# Altium integrated library Linear Technology Power Management Switching Regulator LT1074-LT8705.IntLib: 2252 symbols (part 24 of 148)
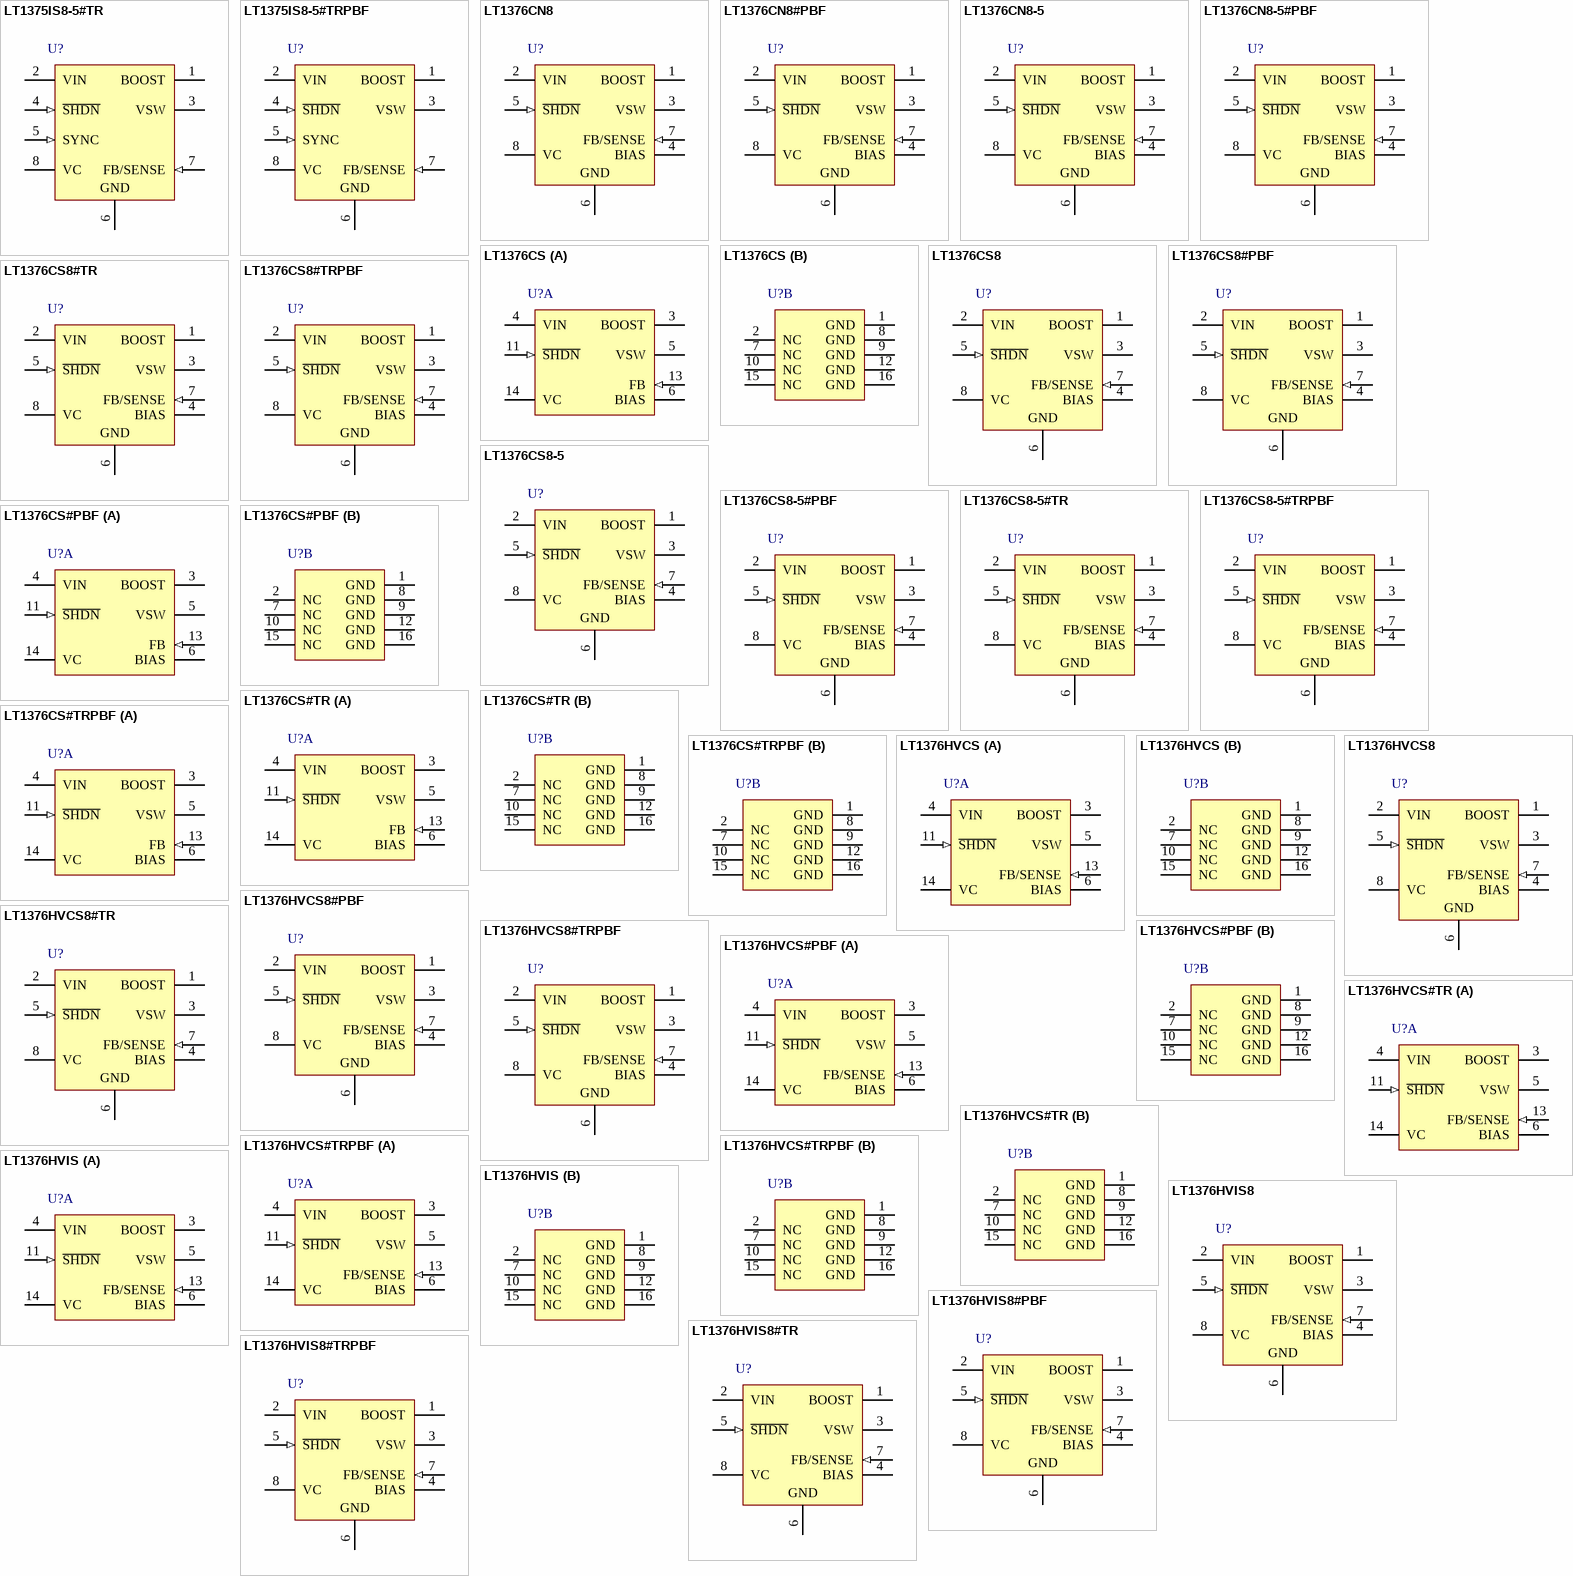
[diagram p94: symbols LT1375IS8-5#TR to LT1376HVIS8#TRPBF]

## LT1376CS8#TRPBF
designator U?
1.5 A, 500 kHz Step-Down Switching Regulator, 8-pin SOIC (S8-8), 0 to 125 degC, Pb-Free, Tape and Reel; Manufacturer: Linear Technology; PartNumber: LT1376CS8#TRPBF; Number of Outputs: 1; DatasheetVersion: Rev. D; PackageVersion: Rev. G, 03/2012; PackageReference: S8-8; PackageDescription: 8-Pin Plastic Small Outline (Narrow .150 Inch), Body 4.9 x 3.9 mm, Pitch 1.27 mm; Supplier 1: Digi-Key; Supplier Part Number 1: LT1376CS8#TRPBF-ND; Supplier 2: Newark; Supplier Part Number 2: 57M3789; Packing: Tape and Reel; RoHS: TRUE; Mounting Technology: Surface Mount; ComponentLink1Description: Manufacturer URL; ComponentLink1URL: http://www.linear.com/; ComponentLink2Description: Datasheet; ComponentLink2URL: http://cds.linear.com/docs/en/datasheet/13756fd.pdf; ComponentLink3Description: Package Specification; ComponentLink3URL: http://cds.linear.com/docs/en/packaging/05081610_G_SO8.pdf
footprint LT-S8-8_N (SOIC, 8-Leads, Body 5x4mm, Pitch 1.27mm, IPC Medium Density)
footprint LT-S8-8_L (SOIC, 8-Leads, Body 5x4mm, Pitch 1.27mm, IPC High Density)
footprint LT-S8-8_M (SOIC, 8-Leads, Body 5x4mm, Pitch 1.27mm, IPC Low Density)
pins: 1 BOOST "The BOOST pin is used to provide a drive voltage, higher than the input voltage, to the internal bipolar NPN power switch. Without this added voltage, the typical switch voltage loss would be about 1.5V. The additional boost (See Datasheet)", 2 VIN (power) "This is the collector of the on-chip power NPN switch. This pin powers the internal circuitry and internal regulator when the BIAS pin is not present. At NPN switch on and off, high dl/dt edges occur on this pin. Keep the (See Datasheet)", 3 VSW (power) "The switch pin is the emitter of the on-chip power NPN switch. It is driven up to the input pin voltage during switch on time. Inductor current drives the switch pin negative during switch off time. Negative voltage is (See Datasheet)", 4 BIAS (power) "The BIAS pin is used to improve efficiency when operating at higher input voltages and light load current. Connecting this pin to the regulated output voltage forces most of the internal circuitry to draw its operating (See Datasheet)", 5 ~{SHDN} (in) "The shutdown pin is used to turn off the regulator and to reduce input drain current to a few microamperes. Actually, this pin has two separate thresholds, one at 2.38V to disable switching, and a second at 0.4V to force (See Datasheet)", 6 GND (power) "The GND pin connection needs consideration for two reasons. First, it acts as the reference for the regulated output, so load regulation will suffer if the “ground?end of the load is not at the same voltage as the (See Datasheet)", 7 FB/SENSE (in) "The feedback pin is used to set output voltage, using an external voltage divider that generates 2.42V at the pin with the desired output voltage. The fixed voltage (-5) parts have the divider included on the chip, and the (See Datasheet)", 8 VC "The VC pin is the output of the error amplifier and the input of the peak switch current comparator. It is normally used for frequency compensation, but can do double duty as a current clamp or control loop override. This (See Datasheet)"

## LT1376CS8-5
designator U?
1.5 A, 500 kHz Step-Down Switching Regulator, 8-pin SOIC (S8-8), 0 to 125 degC; Manufacturer: Linear Technology; PartNumber: LT1376CS8-5; Number of Outputs: 1; DatasheetVersion: Rev. D; PackageVersion: Rev. G, 03/2012; PackageReference: S8-8; PackageDescription: 8-Pin Plastic Small Outline (Narrow .150 Inch), Body 4.9 x 3.9 mm, Pitch 1.27 mm; Supplier 1: Digi-Key; Supplier Part Number 1: LT1376CS8-5-ND; RoHS: FALSE; Mounting Technology: Surface Mount; ComponentLink1Description: Manufacturer URL; ComponentLink1URL: http://www.linear.com/; ComponentLink2Description: Datasheet; ComponentLink2URL: http://cds.linear.com/docs/en/datasheet/13756fd.pdf; ComponentLink3Description: Package Specification; ComponentLink3URL: http://cds.linear.com/docs/en/packaging/05081610_G_SO8.pdf
footprint LT-S8-8_N (SOIC, 8-Leads, Body 5x4mm, Pitch 1.27mm, IPC Medium Density)
footprint LT-S8-8_L (SOIC, 8-Leads, Body 5x4mm, Pitch 1.27mm, IPC High Density)
footprint LT-S8-8_M (SOIC, 8-Leads, Body 5x4mm, Pitch 1.27mm, IPC Low Density)
pins: 1 BOOST "The BOOST pin is used to provide a drive voltage, higher than the input voltage, to the internal bipolar NPN power switch. Without this added voltage, the typical switch voltage loss would be about 1.5V. The additional boost (See Datasheet)", 2 VIN (power) "This is the collector of the on-chip power NPN switch. This pin powers the internal circuitry and internal regulator when the BIAS pin is not present. At NPN switch on and off, high dl/dt edges occur on this pin. Keep the (See Datasheet)", 3 VSW (power) "The switch pin is the emitter of the on-chip power NPN switch. It is driven up to the input pin voltage during switch on time. Inductor current drives the switch pin negative during switch off time. Negative voltage is (See Datasheet)", 4 BIAS (power) "The BIAS pin is used to improve efficiency when operating at higher input voltages and light load current. Connecting this pin to the regulated output voltage forces most of the internal circuitry to draw its operating (See Datasheet)", 5 ~{SHDN} (in) "The shutdown pin is used to turn off the regulator and to reduce input drain current to a few microamperes. Actually, this pin has two separate thresholds, one at 2.38V to disable switching, and a second at 0.4V to force (See Datasheet)", 6 GND (power) "The GND pin connection needs consideration for two reasons. First, it acts as the reference for the regulated output, so load regulation will suffer if the “ground?end of the load is not at the same voltage as the (See Datasheet)", 7 FB/SENSE (in) "The feedback pin is used to set output voltage, using an external voltage divider that generates 2.42V at the pin with the desired output voltage. The fixed voltage (-5) parts have the divider included on the chip, and the (See Datasheet)", 8 VC "The VC pin is the output of the error amplifier and the input of the peak switch current comparator. It is normally used for frequency compensation, but can do double duty as a current clamp or control loop override. This (See Datasheet)"

## LT1376CS8-5#PBF
designator U?
1.5 A, 500 kHz Step-Down Switching Regulator, 8-pin SOIC (S8-8), 0 to 125 degC, Pb-Free; Manufacturer: Linear Technology; PartNumber: LT1376CS8-5#PBF; Number of Outputs: 1; DatasheetVersion: Rev. D; PackageVersion: Rev. G, 03/2012; PackageReference: S8-8; PackageDescription: 8-Pin Plastic Small Outline (Narrow .150 Inch), Body 4.9 x 3.9 mm, Pitch 1.27 mm; Supplier 1: Digi-Key; Supplier Part Number 1: LT1376CS8-5#PBF-ND; Supplier 2: Farnell; Supplier Part Number 2: 1273748; Supplier 3: Newark; Supplier Part Number 3: 57M3784; RoHS: TRUE; Mounting Technology: Surface Mount; ComponentLink1Description: Manufacturer URL; ComponentLink1URL: http://www.linear.com/; ComponentLink2Description: Datasheet; ComponentLink2URL: http://cds.linear.com/docs/en/datasheet/13756fd.pdf; ComponentLink3Description: Package Specification; ComponentLink3URL: http://cds.linear.com/docs/en/packaging/05081610_G_SO8.pdf
footprint LT-S8-8_N (SOIC, 8-Leads, Body 5x4mm, Pitch 1.27mm, IPC Medium Density)
footprint LT-S8-8_L (SOIC, 8-Leads, Body 5x4mm, Pitch 1.27mm, IPC High Density)
footprint LT-S8-8_M (SOIC, 8-Leads, Body 5x4mm, Pitch 1.27mm, IPC Low Density)
pins: 1 BOOST "The BOOST pin is used to provide a drive voltage, higher than the input voltage, to the internal bipolar NPN power switch. Without this added voltage, the typical switch voltage loss would be about 1.5V. The additional boost (See Datasheet)", 2 VIN (power) "This is the collector of the on-chip power NPN switch. This pin powers the internal circuitry and internal regulator when the BIAS pin is not present. At NPN switch on and off, high dl/dt edges occur on this pin. Keep the (See Datasheet)", 3 VSW (power) "The switch pin is the emitter of the on-chip power NPN switch. It is driven up to the input pin voltage during switch on time. Inductor current drives the switch pin negative during switch off time. Negative voltage is (See Datasheet)", 4 BIAS (power) "The BIAS pin is used to improve efficiency when operating at higher input voltages and light load current. Connecting this pin to the regulated output voltage forces most of the internal circuitry to draw its operating (See Datasheet)", 5 ~{SHDN} (in) "The shutdown pin is used to turn off the regulator and to reduce input drain current to a few microamperes. Actually, this pin has two separate thresholds, one at 2.38V to disable switching, and a second at 0.4V to force (See Datasheet)", 6 GND (power) "The GND pin connection needs consideration for two reasons. First, it acts as the reference for the regulated output, so load regulation will suffer if the “ground?end of the load is not at the same voltage as the (See Datasheet)", 7 FB/SENSE (in) "The feedback pin is used to set output voltage, using an external voltage divider that generates 2.42V at the pin with the desired output voltage. The fixed voltage (-5) parts have the divider included on the chip, and the (See Datasheet)", 8 VC "The VC pin is the output of the error amplifier and the input of the peak switch current comparator. It is normally used for frequency compensation, but can do double duty as a current clamp or control loop override. This (See Datasheet)"

## LT1376CS8-5#TR
designator U?
1.5 A, 500 kHz Step-Down Switching Regulator, 8-pin SOIC (S8-8), 0 to 125 degC, Tape and Reel; Manufacturer: Linear Technology; PartNumber: LT1376CS8-5#TR; Number of Outputs: 1; DatasheetVersion: Rev. D; PackageVersion: Rev. G, 03/2012; PackageReference: S8-8; PackageDescription: 8-Pin Plastic Small Outline (Narrow .150 Inch), Body 4.9 x 3.9 mm, Pitch 1.27 mm; Supplier 1: Digi-Key; Supplier Part Number 1: LT1376CS8-5#TR-ND; Packing: Tape and Reel; RoHS: FALSE; Mounting Technology: Surface Mount; ComponentLink1Description: Manufacturer URL; ComponentLink1URL: http://www.linear.com/; ComponentLink2Description: Datasheet; ComponentLink2URL: http://cds.linear.com/docs/en/datasheet/13756fd.pdf; ComponentLink3Description: Package Specification; ComponentLink3URL: http://cds.linear.com/docs/en/packaging/05081610_G_SO8.pdf
footprint LT-S8-8_N (SOIC, 8-Leads, Body 5x4mm, Pitch 1.27mm, IPC Medium Density)
footprint LT-S8-8_L (SOIC, 8-Leads, Body 5x4mm, Pitch 1.27mm, IPC High Density)
footprint LT-S8-8_M (SOIC, 8-Leads, Body 5x4mm, Pitch 1.27mm, IPC Low Density)
pins: 1 BOOST "The BOOST pin is used to provide a drive voltage, higher than the input voltage, to the internal bipolar NPN power switch. Without this added voltage, the typical switch voltage loss would be about 1.5V. The additional boost (See Datasheet)", 2 VIN (power) "This is the collector of the on-chip power NPN switch. This pin powers the internal circuitry and internal regulator when the BIAS pin is not present. At NPN switch on and off, high dl/dt edges occur on this pin. Keep the (See Datasheet)", 3 VSW (power) "The switch pin is the emitter of the on-chip power NPN switch. It is driven up to the input pin voltage during switch on time. Inductor current drives the switch pin negative during switch off time. Negative voltage is (See Datasheet)", 4 BIAS (power) "The BIAS pin is used to improve efficiency when operating at higher input voltages and light load current. Connecting this pin to the regulated output voltage forces most of the internal circuitry to draw its operating (See Datasheet)", 5 ~{SHDN} (in) "The shutdown pin is used to turn off the regulator and to reduce input drain current to a few microamperes. Actually, this pin has two separate thresholds, one at 2.38V to disable switching, and a second at 0.4V to force (See Datasheet)", 6 GND (power) "The GND pin connection needs consideration for two reasons. First, it acts as the reference for the regulated output, so load regulation will suffer if the “ground?end of the load is not at the same voltage as the (See Datasheet)", 7 FB/SENSE (in) "The feedback pin is used to set output voltage, using an external voltage divider that generates 2.42V at the pin with the desired output voltage. The fixed voltage (-5) parts have the divider included on the chip, and the (See Datasheet)", 8 VC "The VC pin is the output of the error amplifier and the input of the peak switch current comparator. It is normally used for frequency compensation, but can do double duty as a current clamp or control loop override. This (See Datasheet)"

## LT1376CS8-5#TRPBF
designator U?
1.5 A, 500 kHz Step-Down Switching Regulator, 8-pin SOIC (S8-8), 0 to 125 degC, Pb-Free, Tape and Reel; Manufacturer: Linear Technology; PartNumber: LT1376CS8-5#TRPBF; Number of Outputs: 1; DatasheetVersion: Rev. D; PackageVersion: Rev. G, 03/2012; PackageReference: S8-8; PackageDescription: 8-Pin Plastic Small Outline (Narrow .150 Inch), Body 4.9 x 3.9 mm, Pitch 1.27 mm; Supplier 1: Digi-Key; Supplier Part Number 1: LT1376CS8-5#TRPBF-ND; Supplier 2: Newark; Supplier Part Number 2: 57M3786; Packing: Tape and Reel; RoHS: TRUE; Mounting Technology: Surface Mount; ComponentLink1Description: Manufacturer URL; ComponentLink1URL: http://www.linear.com/; ComponentLink2Description: Datasheet; ComponentLink2URL: http://cds.linear.com/docs/en/datasheet/13756fd.pdf; ComponentLink3Description: Package Specification; ComponentLink3URL: http://cds.linear.com/docs/en/packaging/05081610_G_SO8.pdf
footprint LT-S8-8_N (SOIC, 8-Leads, Body 5x4mm, Pitch 1.27mm, IPC Medium Density)
footprint LT-S8-8_L (SOIC, 8-Leads, Body 5x4mm, Pitch 1.27mm, IPC High Density)
footprint LT-S8-8_M (SOIC, 8-Leads, Body 5x4mm, Pitch 1.27mm, IPC Low Density)
pins: 1 BOOST "The BOOST pin is used to provide a drive voltage, higher than the input voltage, to the internal bipolar NPN power switch. Without this added voltage, the typical switch voltage loss would be about 1.5V. The additional boost (See Datasheet)", 2 VIN (power) "This is the collector of the on-chip power NPN switch. This pin powers the internal circuitry and internal regulator when the BIAS pin is not present. At NPN switch on and off, high dl/dt edges occur on this pin. Keep the (See Datasheet)", 3 VSW (power) "The switch pin is the emitter of the on-chip power NPN switch. It is driven up to the input pin voltage during switch on time. Inductor current drives the switch pin negative during switch off time. Negative voltage is (See Datasheet)", 4 BIAS (power) "The BIAS pin is used to improve efficiency when operating at higher input voltages and light load current. Connecting this pin to the regulated output voltage forces most of the internal circuitry to draw its operating (See Datasheet)", 5 ~{SHDN} (in) "The shutdown pin is used to turn off the regulator and to reduce input drain current to a few microamperes. Actually, this pin has two separate thresholds, one at 2.38V to disable switching, and a second at 0.4V to force (See Datasheet)", 6 GND (power) "The GND pin connection needs consideration for two reasons. First, it acts as the reference for the regulated output, so load regulation will suffer if the “ground?end of the load is not at the same voltage as the (See Datasheet)", 7 FB/SENSE (in) "The feedback pin is used to set output voltage, using an external voltage divider that generates 2.42V at the pin with the desired output voltage. The fixed voltage (-5) parts have the divider included on the chip, and the (See Datasheet)", 8 VC "The VC pin is the output of the error amplifier and the input of the peak switch current comparator. It is normally used for frequency compensation, but can do double duty as a current clamp or control loop override. This (See Datasheet)"

## LT1376CS#PBF
designator U?
1.5 A, 500 kHz Step-Down Switching Regulator, 16-pin SOP (S-16), 0 to 125 degC, Pb-Free; Manufacturer: Linear Technology; PartNumber: LT1376CS#PBF; Number of Outputs: 1; DatasheetVersion: Rev. D; PackageVersion: Rev. G, 05/2012; PackageReference: S-16; PackageDescription: 16-Pin Plastic Small Outline, Body 9.9 x 3.9 mm, Pitch 1.27 mm; Supplier 1: Digi-Key; Supplier Part Number 1: LT1376CS#PBF-ND; RoHS: TRUE; Mounting Technology: Surface Mount; ComponentLink1Description: Manufacturer URL; ComponentLink1URL: http://www.linear.com/; ComponentLink2Description: Datasheet; ComponentLink2URL: http://cds.linear.com/docs/en/datasheet/13756fd.pdf; ComponentLink3Description: Package Specification; ComponentLink3URL: http://cds.linear.com/docs/en/packaging/S16%2005-08-1610%20Rev%20G.pdf
footprint LT-S-16_N (SOP, 16-Leads, Body 10x4mm, Pitch 1.27mm, IPC Medium Density)
footprint LT-S-16_L (SOP, 16-Leads, Body 10x4mm, Pitch 1.27mm, IPC High Density)
footprint LT-S-16_M (SOP, 16-Leads, Body 10x4mm, Pitch 1.27mm, IPC Low Density)
part A pins: 3 BOOST "The BOOST pin is used to provide a drive voltage, higher than the input voltage, to the internal bipolar NPN power switch. Without this added voltage, the typical switch voltage loss would be about 1.5V. The additional boost (See Datasheet)", 4 VIN (power) "This is the collector of the on-chip power NPN switch. This pin powers the internal circuitry and internal regulator when the BIAS pin is not present. At NPN switch on and off, high dl/dt edges occur on this pin. Keep the (See Datasheet)", 5 VSW (power) "The switch pin is the emitter of the on-chip power NPN switch. It is driven up to the input pin voltage during switch on time. Inductor current drives the switch pin negative during switch off time. Negative voltage is (See Datasheet)", 6 BIAS (power) "The BIAS pin is used to improve efficiency when operating at higher input voltages and light load current. Connecting this pin to the regulated output voltage forces most of the internal circuitry to draw its operating (See Datasheet)", 11 ~{SHDN} (in) "The shutdown pin is used to turn off the regulator and to reduce input drain current to a few microamperes. Actually, this pin has two separate thresholds, one at 2.38V to disable switching, and a second at 0.4V to force (See Datasheet)", 13 FB (in) "The feedback pin is used to set output voltage, using an external voltage divider that generates 2.42V at the pin with the desired output voltage. The fixed voltage (-5) parts have the divider included on the chip, and the (See Datasheet)", 14 VC "The VC pin is the output of the error amplifier and the input of the peak switch current comparator. It is normally used for frequency compensation, but can do double duty as a current clamp or control loop override. This (See Datasheet)"
part B pins: 1 GND (power) "The GND pin connection needs consideration for two reasons. First, it acts as the reference for the regulated output, so load regulation will suffer if the “ground?end of the load is not at the same voltage as the (See Datasheet)", 2 NC, 7 NC, 8 GND (power) "The GND pin connection needs consideration for two reasons. First, it acts as the reference for the regulated output, so load regulation will suffer if the “ground?end of the load is not at the same voltage as the (See Datasheet)", 9 GND (power) "The GND pin connection needs consideration for two reasons. First, it acts as the reference for the regulated output, so load regulation will suffer if the “ground?end of the load is not at the same voltage as the (See Datasheet)", 10 NC, 12 GND (power) "The GND pin connection needs consideration for two reasons. First, it acts as the reference for the regulated output, so load regulation will suffer if the “ground?end of the load is not at the same voltage as the (See Datasheet)", 15 NC, 16 GND (power) "The GND pin connection needs consideration for two reasons. First, it acts as the reference for the regulated output, so load regulation will suffer if the “ground?end of the load is not at the same voltage as the (See Datasheet)"

## LT1376CS#TR
designator U?
1.5 A, 500 kHz Step-Down Switching Regulator, 16-pin SOP (S-16), 0 to 125 degC, Tape and Reel; Manufacturer: Linear Technology; PartNumber: LT1376CS#TR; Number of Outputs: 1; DatasheetVersion: Rev. D; PackageVersion: Rev. G, 05/2012; PackageReference: S-16; PackageDescription: 16-Pin Plastic Small Outline, Body 9.9 x 3.9 mm, Pitch 1.27 mm; Supplier 1: Digi-Key; Supplier Part Number 1: LT1376CS#TR-ND; Packing: Tape and Reel; RoHS: FALSE; Mounting Technology: Surface Mount; ComponentLink1Description: Manufacturer URL; ComponentLink1URL: http://www.linear.com/; ComponentLink2Description: Datasheet; ComponentLink2URL: http://cds.linear.com/docs/en/datasheet/13756fd.pdf; ComponentLink3Description: Package Specification; ComponentLink3URL: http://cds.linear.com/docs/en/packaging/S16%2005-08-1610%20Rev%20G.pdf
footprint LT-S-16_N (SOP, 16-Leads, Body 10x4mm, Pitch 1.27mm, IPC Medium Density)
footprint LT-S-16_L (SOP, 16-Leads, Body 10x4mm, Pitch 1.27mm, IPC High Density)
footprint LT-S-16_M (SOP, 16-Leads, Body 10x4mm, Pitch 1.27mm, IPC Low Density)
part A pins: 3 BOOST "The BOOST pin is used to provide a drive voltage, higher than the input voltage, to the internal bipolar NPN power switch. Without this added voltage, the typical switch voltage loss would be about 1.5V. The additional boost (See Datasheet)", 4 VIN (power) "This is the collector of the on-chip power NPN switch. This pin powers the internal circuitry and internal regulator when the BIAS pin is not present. At NPN switch on and off, high dl/dt edges occur on this pin. Keep the (See Datasheet)", 5 VSW (power) "The switch pin is the emitter of the on-chip power NPN switch. It is driven up to the input pin voltage during switch on time. Inductor current drives the switch pin negative during switch off time. Negative voltage is (See Datasheet)", 6 BIAS (power) "The BIAS pin is used to improve efficiency when operating at higher input voltages and light load current. Connecting this pin to the regulated output voltage forces most of the internal circuitry to draw its operating (See Datasheet)", 11 ~{SHDN} (in) "The shutdown pin is used to turn off the regulator and to reduce input drain current to a few microamperes. Actually, this pin has two separate thresholds, one at 2.38V to disable switching, and a second at 0.4V to force (See Datasheet)", 13 FB (in) "The feedback pin is used to set output voltage, using an external voltage divider that generates 2.42V at the pin with the desired output voltage. The fixed voltage (-5) parts have the divider included on the chip, and the (See Datasheet)", 14 VC "The VC pin is the output of the error amplifier and the input of the peak switch current comparator. It is normally used for frequency compensation, but can do double duty as a current clamp or control loop override. This (See Datasheet)"
part B pins: 1 GND (power) "The GND pin connection needs consideration for two reasons. First, it acts as the reference for the regulated output, so load regulation will suffer if the “ground?end of the load is not at the same voltage as the (See Datasheet)", 2 NC, 7 NC, 8 GND (power) "The GND pin connection needs consideration for two reasons. First, it acts as the reference for the regulated output, so load regulation will suffer if the “ground?end of the load is not at the same voltage as the (See Datasheet)", 9 GND (power) "The GND pin connection needs consideration for two reasons. First, it acts as the reference for the regulated output, so load regulation will suffer if the “ground?end of the load is not at the same voltage as the (See Datasheet)", 10 NC, 12 GND (power) "The GND pin connection needs consideration for two reasons. First, it acts as the reference for the regulated output, so load regulation will suffer if the “ground?end of the load is not at the same voltage as the (See Datasheet)", 15 NC, 16 GND (power) "The GND pin connection needs consideration for two reasons. First, it acts as the reference for the regulated output, so load regulation will suffer if the “ground?end of the load is not at the same voltage as the (See Datasheet)"

## LT1376CS#TRPBF
designator U?
1.5 A, 500 kHz Step-Down Switching Regulator, 16-pin SOP (S-16), 0 to 125 degC, Pb-Free, Tape and Reel; Manufacturer: Linear Technology; PartNumber: LT1376CS#TRPBF; Number of Outputs: 1; DatasheetVersion: Rev. D; PackageVersion: Rev. G, 05/2012; PackageReference: S-16; PackageDescription: 16-Pin Plastic Small Outline, Body 9.9 x 3.9 mm, Pitch 1.27 mm; Supplier 1: Digi-Key; Supplier Part Number 1: LT1376CS#TRPBF-ND; Packing: Tape and Reel; RoHS: TRUE; Mounting Technology: Surface Mount; ComponentLink1Description: Manufacturer URL; ComponentLink1URL: http://www.linear.com/; ComponentLink2Description: Datasheet; ComponentLink2URL: http://cds.linear.com/docs/en/datasheet/13756fd.pdf; ComponentLink3Description: Package Specification; ComponentLink3URL: http://cds.linear.com/docs/en/packaging/S16%2005-08-1610%20Rev%20G.pdf
footprint LT-S-16_N (SOP, 16-Leads, Body 10x4mm, Pitch 1.27mm, IPC Medium Density)
footprint LT-S-16_L (SOP, 16-Leads, Body 10x4mm, Pitch 1.27mm, IPC High Density)
footprint LT-S-16_M (SOP, 16-Leads, Body 10x4mm, Pitch 1.27mm, IPC Low Density)
part A pins: 3 BOOST "The BOOST pin is used to provide a drive voltage, higher than the input voltage, to the internal bipolar NPN power switch. Without this added voltage, the typical switch voltage loss would be about 1.5V. The additional boost (See Datasheet)", 4 VIN (power) "This is the collector of the on-chip power NPN switch. This pin powers the internal circuitry and internal regulator when the BIAS pin is not present. At NPN switch on and off, high dl/dt edges occur on this pin. Keep the (See Datasheet)", 5 VSW (power) "The switch pin is the emitter of the on-chip power NPN switch. It is driven up to the input pin voltage during switch on time. Inductor current drives the switch pin negative during switch off time. Negative voltage is (See Datasheet)", 6 BIAS (power) "The BIAS pin is used to improve efficiency when operating at higher input voltages and light load current. Connecting this pin to the regulated output voltage forces most of the internal circuitry to draw its operating (See Datasheet)", 11 ~{SHDN} (in) "The shutdown pin is used to turn off the regulator and to reduce input drain current to a few microamperes. Actually, this pin has two separate thresholds, one at 2.38V to disable switching, and a second at 0.4V to force (See Datasheet)", 13 FB (in) "The feedback pin is used to set output voltage, using an external voltage divider that generates 2.42V at the pin with the desired output voltage. The fixed voltage (-5) parts have the divider included on the chip, and the (See Datasheet)", 14 VC "The VC pin is the output of the error amplifier and the input of the peak switch current comparator. It is normally used for frequency compensation, but can do double duty as a current clamp or control loop override. This (See Datasheet)"
part B pins: 1 GND (power) "The GND pin connection needs consideration for two reasons. First, it acts as the reference for the regulated output, so load regulation will suffer if the “ground?end of the load is not at the same voltage as the (See Datasheet)", 2 NC, 7 NC, 8 GND (power) "The GND pin connection needs consideration for two reasons. First, it acts as the reference for the regulated output, so load regulation will suffer if the “ground?end of the load is not at the same voltage as the (See Datasheet)", 9 GND (power) "The GND pin connection needs consideration for two reasons. First, it acts as the reference for the regulated output, so load regulation will suffer if the “ground?end of the load is not at the same voltage as the (See Datasheet)", 10 NC, 12 GND (power) "The GND pin connection needs consideration for two reasons. First, it acts as the reference for the regulated output, so load regulation will suffer if the “ground?end of the load is not at the same voltage as the (See Datasheet)", 15 NC, 16 GND (power) "The GND pin connection needs consideration for two reasons. First, it acts as the reference for the regulated output, so load regulation will suffer if the “ground?end of the load is not at the same voltage as the (See Datasheet)"

## LT1376HVCS
designator U?
1.5 A, 500 kHz Step-Down Switching Regulator, 16-pin SOP (S-16), 0 to 125 degC; Manufacturer: Linear Technology; PartNumber: LT1376HVCS; Number of Outputs: 1; DatasheetVersion: Rev. D; PackageVersion: Rev. G, 05/2012; PackageReference: S-16; PackageDescription: 16-Pin Plastic Small Outline, Body 9.9 x 3.9 mm, Pitch 1.27 mm; Supplier 1: Digi-Key; Supplier Part Number 1: LT1376HVCS-ND; RoHS: FALSE; Mounting Technology: Surface Mount; ComponentLink1Description: Manufacturer URL; ComponentLink1URL: http://www.linear.com/; ComponentLink2Description: Datasheet; ComponentLink2URL: http://cds.linear.com/docs/en/datasheet/13756fd.pdf; ComponentLink3Description: Package Specification; ComponentLink3URL: http://cds.linear.com/docs/en/packaging/S16%2005-08-1610%20Rev%20G.pdf
footprint LT-S-16_N (SOP, 16-Leads, Body 10x4mm, Pitch 1.27mm, IPC Medium Density)
footprint LT-S-16_L (SOP, 16-Leads, Body 10x4mm, Pitch 1.27mm, IPC High Density)
footprint LT-S-16_M (SOP, 16-Leads, Body 10x4mm, Pitch 1.27mm, IPC Low Density)
part A pins: 3 BOOST, 4 VIN (power) "This is the collector of the on-chip power NPN switch. This pin powers the internal circuitry and internal regulator when the BIAS pin is not present. At NPN switch on and off, high dl/dt edges occur on this pin. Keep the (See Datasheet)", 5 VSW (power), 6 BIAS (power) "The BIAS pin is used to improve efficiency when operating at higher input voltages and light load current. Connecting this pin to the regulated output voltage forces most of the internal circuitry to draw its operating (See Datasheet)", 11 ~{SHDN} (in), 13 FB/SENSE (in) "The feedback pin is used to set output voltage, using an external voltage divider that generates 2.42V at the pin with the desired output voltage. The fixed voltage (-5) parts have the divider included on the chip, and the (See Datasheet)", 14 VC "The VC pin is the output of the error amplifier and the input of the peak switch current comparator. It is normally used for frequency compensation, but can do double duty as a current clamp or control loop override. This (See Datasheet)"
part B pins: 1 GND (power) "The GND pin connection needs consideration for two reasons. First, it acts as the reference for the regulated output, so load regulation will suffer if the “ground” end of the load is not at the same voltage as the (See Datasheet)", 2 NC, 7 NC, 8 GND (power), 9 GND (power), 10 NC, 12 GND (power), 15 NC, 16 GND (power) "The GND pin connection needs consideration for two reasons. First, it acts as the reference for the regulated output, so load regulation will suffer if the “ground” end of the load is not at the same voltage as the (See Datasheet)"

## LT1376HVCS8
designator U?
1.5 A, 500 kHz Step-Down Switching Regulator, 8-pin SOIC (S8-8), 0 to 125 degC; Manufacturer: Linear Technology; PartNumber: LT1376HVCS8; Number of Outputs: 1; DatasheetVersion: Rev. D; PackageVersion: Rev. G, 03/2012; PackageReference: S8-8; PackageDescription: 8-Pin Plastic Small Outline (Narrow .150 Inch), Body 4.9 x 3.9 mm, Pitch 1.27 mm; Supplier 1: Digi-Key; Supplier Part Number 1: LT1376HVCS8-ND; Supplier 2: Newark; Supplier Part Number 2: 57M3794; RoHS: FALSE; Mounting Technology: Surface Mount; ComponentLink1Description: Manufacturer URL; ComponentLink1URL: http://www.linear.com/; ComponentLink2Description: Datasheet; ComponentLink2URL: http://cds.linear.com/docs/en/datasheet/13756fd.pdf; ComponentLink3Description: Package Specification; ComponentLink3URL: http://cds.linear.com/docs/en/packaging/05081610_G_SO8.pdf
footprint LT-S8-8_N (SOIC, 8-Leads, Body 5x4mm, Pitch 1.27mm, IPC Medium Density)
footprint LT-S8-8_L (SOIC, 8-Leads, Body 5x4mm, Pitch 1.27mm, IPC High Density)
footprint LT-S8-8_M (SOIC, 8-Leads, Body 5x4mm, Pitch 1.27mm, IPC Low Density)
pins: 1 BOOST "The BOOST pin is used to provide a drive voltage, higher than the input voltage, to the internal bipolar NPN power switch. Without this added voltage, the typical switch voltage loss would be about 1.5V. The additional boost (See Datasheet)", 2 VIN (power) "This is the collector of the on-chip power NPN switch. This pin powers the internal circuitry and internal regulator when the BIAS pin is not present. At NPN switch on and off, high dl/dt edges occur on this pin. Keep the (See Datasheet)", 3 VSW (power) "The switch pin is the emitter of the on-chip power NPN switch. It is driven up to the input pin voltage during switch on time. Inductor current drives the switch pin negative during switch off time. Negative voltage is (See Datasheet)", 4 BIAS (power) "The BIAS pin is used to improve efficiency when operating at higher input voltages and light load current. Connecting this pin to the regulated output voltage forces most of the internal circuitry to draw its operating (See Datasheet)", 5 ~{SHDN} (in) "The shutdown pin is used to turn off the regulator and to reduce input drain current to a few microamperes. Actually, this pin has two separate thresholds, one at 2.38V to disable switching, and a second at 0.4V to force (See Datasheet)", 6 GND (power) "The GND pin connection needs consideration for two reasons. First, it acts as the reference for the regulated output, so load regulation will suffer if the “ground?end of the load is not at the same voltage as the (See Datasheet)", 7 FB/SENSE (in) "The feedback pin is used to set output voltage, using an external voltage divider that generates 2.42V at the pin with the desired output voltage. The fixed voltage (-5) parts have the divider included on the chip, and the (See Datasheet)", 8 VC "The VC pin is the output of the error amplifier and the input of the peak switch current comparator. It is normally used for frequency compensation, but can do double duty as a current clamp or control loop override. This (See Datasheet)"

## LT1376HVCS8#PBF
designator U?
1.5 A, 500 kHz Step-Down Switching Regulator, 8-pin SOIC (S8-8), 0 to 125 degC, Pb-Free; Manufacturer: Linear Technology; PartNumber: LT1376HVCS8#PBF; Number of Outputs: 1; DatasheetVersion: Rev. D; PackageVersion: Rev. G, 03/2012; PackageReference: S8-8; PackageDescription: 8-Pin Plastic Small Outline (Narrow .150 Inch), Body 4.9 x 3.9 mm, Pitch 1.27 mm; Supplier 1: Digi-Key; Supplier Part Number 1: LT1376HVCS8#PBF-ND; Supplier 2: Farnell; Supplier Part Number 2: 2102632; Supplier 3: Newark; Supplier Part Number 3: 57M3795; RoHS: TRUE; Mounting Technology: Surface Mount; ComponentLink1Description: Manufacturer URL; ComponentLink1URL: http://www.linear.com/; ComponentLink2Description: Datasheet; ComponentLink2URL: http://cds.linear.com/docs/en/datasheet/13756fd.pdf; ComponentLink3Description: Package Specification; ComponentLink3URL: http://cds.linear.com/docs/en/packaging/05081610_G_SO8.pdf
footprint LT-S8-8_N (SOIC, 8-Leads, Body 5x4mm, Pitch 1.27mm, IPC Medium Density)
footprint LT-S8-8_L (SOIC, 8-Leads, Body 5x4mm, Pitch 1.27mm, IPC High Density)
footprint LT-S8-8_M (SOIC, 8-Leads, Body 5x4mm, Pitch 1.27mm, IPC Low Density)
pins: 1 BOOST "The BOOST pin is used to provide a drive voltage, higher than the input voltage, to the internal bipolar NPN power switch. Without this added voltage, the typical switch voltage loss would be about 1.5V. The additional boost (See Datasheet)", 2 VIN (power) "This is the collector of the on-chip power NPN switch. This pin powers the internal circuitry and internal regulator when the BIAS pin is not present. At NPN switch on and off, high dl/dt edges occur on this pin. Keep the (See Datasheet)", 3 VSW (power) "The switch pin is the emitter of the on-chip power NPN switch. It is driven up to the input pin voltage during switch on time. Inductor current drives the switch pin negative during switch off time. Negative voltage is (See Datasheet)", 4 BIAS (power) "The BIAS pin is used to improve efficiency when operating at higher input voltages and light load current. Connecting this pin to the regulated output voltage forces most of the internal circuitry to draw its operating (See Datasheet)", 5 ~{SHDN} (in) "The shutdown pin is used to turn off the regulator and to reduce input drain current to a few microamperes. Actually, this pin has two separate thresholds, one at 2.38V to disable switching, and a second at 0.4V to force (See Datasheet)", 6 GND (power) "The GND pin connection needs consideration for two reasons. First, it acts as the reference for the regulated output, so load regulation will suffer if the “ground?end of the load is not at the same voltage as the (See Datasheet)", 7 FB/SENSE (in) "The feedback pin is used to set output voltage, using an external voltage divider that generates 2.42V at the pin with the desired output voltage. The fixed voltage (-5) parts have the divider included on the chip, and the (See Datasheet)", 8 VC "The VC pin is the output of the error amplifier and the input of the peak switch current comparator. It is normally used for frequency compensation, but can do double duty as a current clamp or control loop override. This (See Datasheet)"

## LT1376HVCS8#TR
designator U?
1.5 A, 500 kHz Step-Down Switching Regulator, 8-pin SOIC (S8-8), 0 to 125 degC, Tape and Reel; Manufacturer: Linear Technology; PartNumber: LT1376HVCS8#TR; Number of Outputs: 1; DatasheetVersion: Rev. D; PackageVersion: Rev. G, 03/2012; PackageReference: S8-8; PackageDescription: 8-Pin Plastic Small Outline (Narrow .150 Inch), Body 4.9 x 3.9 mm, Pitch 1.27 mm; Supplier 1: Digi-Key; Supplier Part Number 1: LT1376HVCS8-TR-ND; Packing: Tape and Reel; RoHS: FALSE; Mounting Technology: Surface Mount; ComponentLink1Description: Manufacturer URL; ComponentLink1URL: http://www.linear.com/; ComponentLink2Description: Datasheet; ComponentLink2URL: http://cds.linear.com/docs/en/datasheet/13756fd.pdf; ComponentLink3Description: Package Specification; ComponentLink3URL: http://cds.linear.com/docs/en/packaging/05081610_G_SO8.pdf
footprint LT-S8-8_N (SOIC, 8-Leads, Body 5x4mm, Pitch 1.27mm, IPC Medium Density)
footprint LT-S8-8_L (SOIC, 8-Leads, Body 5x4mm, Pitch 1.27mm, IPC High Density)
footprint LT-S8-8_M (SOIC, 8-Leads, Body 5x4mm, Pitch 1.27mm, IPC Low Density)
pins: 1 BOOST "The BOOST pin is used to provide a drive voltage, higher than the input voltage, to the internal bipolar NPN power switch. Without this added voltage, the typical switch voltage loss would be about 1.5V. The additional boost (See Datasheet)", 2 VIN (power) "This is the collector of the on-chip power NPN switch. This pin powers the internal circuitry and internal regulator when the BIAS pin is not present. At NPN switch on and off, high dl/dt edges occur on this pin. Keep the (See Datasheet)", 3 VSW (power) "The switch pin is the emitter of the on-chip power NPN switch. It is driven up to the input pin voltage during switch on time. Inductor current drives the switch pin negative during switch off time. Negative voltage is (See Datasheet)", 4 BIAS (power) "The BIAS pin is used to improve efficiency when operating at higher input voltages and light load current. Connecting this pin to the regulated output voltage forces most of the internal circuitry to draw its operating (See Datasheet)", 5 ~{SHDN} (in) "The shutdown pin is used to turn off the regulator and to reduce input drain current to a few microamperes. Actually, this pin has two separate thresholds, one at 2.38V to disable switching, and a second at 0.4V to force (See Datasheet)", 6 GND (power) "The GND pin connection needs consideration for two reasons. First, it acts as the reference for the regulated output, so load regulation will suffer if the “ground?end of the load is not at the same voltage as the (See Datasheet)", 7 FB/SENSE (in) "The feedback pin is used to set output voltage, using an external voltage divider that generates 2.42V at the pin with the desired output voltage. The fixed voltage (-5) parts have the divider included on the chip, and the (See Datasheet)", 8 VC "The VC pin is the output of the error amplifier and the input of the peak switch current comparator. It is normally used for frequency compensation, but can do double duty as a current clamp or control loop override. This (See Datasheet)"

## LT1376HVCS8#TRPBF
designator U?
1.5 A, 500 kHz Step-Down Switching Regulator, 8-pin SOIC (S8-8), 0 to 125 degC, Pb-Free, Tape and Reel; Manufacturer: Linear Technology; PartNumber: LT1376HVCS8#TRPBF; Number of Outputs: 1; DatasheetVersion: Rev. D; PackageVersion: Rev. G, 03/2012; PackageReference: S8-8; PackageDescription: 8-Pin Plastic Small Outline (Narrow .150 Inch), Body 4.9 x 3.9 mm, Pitch 1.27 mm; Supplier 1: Digi-Key; Supplier Part Number 1: LT1376HVCS8#TRPBF-ND; Packing: Tape and Reel; RoHS: TRUE; Mounting Technology: Surface Mount; ComponentLink1Description: Manufacturer URL; ComponentLink1URL: http://www.linear.com/; ComponentLink2Description: Datasheet; ComponentLink2URL: http://cds.linear.com/docs/en/datasheet/13756fd.pdf; ComponentLink3Description: Package Specification; ComponentLink3URL: http://cds.linear.com/docs/en/packaging/05081610_G_SO8.pdf
footprint LT-S8-8_N (SOIC, 8-Leads, Body 5x4mm, Pitch 1.27mm, IPC Medium Density)
footprint LT-S8-8_L (SOIC, 8-Leads, Body 5x4mm, Pitch 1.27mm, IPC High Density)
footprint LT-S8-8_M (SOIC, 8-Leads, Body 5x4mm, Pitch 1.27mm, IPC Low Density)
pins: 1 BOOST "The BOOST pin is used to provide a drive voltage, higher than the input voltage, to the internal bipolar NPN power switch. Without this added voltage, the typical switch voltage loss would be about 1.5V. The additional boost (See Datasheet)", 2 VIN (power) "This is the collector of the on-chip power NPN switch. This pin powers the internal circuitry and internal regulator when the BIAS pin is not present. At NPN switch on and off, high dl/dt edges occur on this pin. Keep the (See Datasheet)", 3 VSW (power) "The switch pin is the emitter of the on-chip power NPN switch. It is driven up to the input pin voltage during switch on time. Inductor current drives the switch pin negative during switch off time. Negative voltage is (See Datasheet)", 4 BIAS (power) "The BIAS pin is used to improve efficiency when operating at higher input voltages and light load current. Connecting this pin to the regulated output voltage forces most of the internal circuitry to draw its operating (See Datasheet)", 5 ~{SHDN} (in) "The shutdown pin is used to turn off the regulator and to reduce input drain current to a few microamperes. Actually, this pin has two separate thresholds, one at 2.38V to disable switching, and a second at 0.4V to force (See Datasheet)", 6 GND (power) "The GND pin connection needs consideration for two reasons. First, it acts as the reference for the regulated output, so load regulation will suffer if the “ground?end of the load is not at the same voltage as the (See Datasheet)", 7 FB/SENSE (in) "The feedback pin is used to set output voltage, using an external voltage divider that generates 2.42V at the pin with the desired output voltage. The fixed voltage (-5) parts have the divider included on the chip, and the (See Datasheet)", 8 VC "The VC pin is the output of the error amplifier and the input of the peak switch current comparator. It is normally used for frequency compensation, but can do double duty as a current clamp or control loop override. This (See Datasheet)"

## LT1376HVCS#PBF
designator U?
1.5 A, 500 kHz Step-Down Switching Regulator, 16-pin SOP (S-16), 0 to 125 degC, Pb-Free; Manufacturer: Linear Technology; PartNumber: LT1376HVCS#PBF; Number of Outputs: 1; DatasheetVersion: Rev. D; PackageVersion: Rev. G, 05/2012; PackageReference: S-16; PackageDescription: 16-Pin Plastic Small Outline, Body 9.9 x 3.9 mm, Pitch 1.27 mm; Supplier 1: Digi-Key; Supplier Part Number 1: LT1376HVCS#PBF-ND; Supplier 2: Farnell; Supplier Part Number 2: 1273749; RoHS: TRUE; Mounting Technology: Surface Mount; ComponentLink1Description: Manufacturer URL; ComponentLink1URL: http://www.linear.com/; ComponentLink2Description: Datasheet; ComponentLink2URL: http://cds.linear.com/docs/en/datasheet/13756fd.pdf; ComponentLink3Description: Package Specification; ComponentLink3URL: http://cds.linear.com/docs/en/packaging/S16%2005-08-1610%20Rev%20G.pdf
footprint LT-S-16_N (SOP, 16-Leads, Body 10x4mm, Pitch 1.27mm, IPC Medium Density)
footprint LT-S-16_L (SOP, 16-Leads, Body 10x4mm, Pitch 1.27mm, IPC High Density)
footprint LT-S-16_M (SOP, 16-Leads, Body 10x4mm, Pitch 1.27mm, IPC Low Density)
part A pins: 3 BOOST, 4 VIN (power) "This is the collector of the on-chip power NPN switch. This pin powers the internal circuitry and internal regulator when the BIAS pin is not present. At NPN switch on and off, high dl/dt edges occur on this pin. Keep the (See Datasheet)", 5 VSW (power), 6 BIAS (power) "The BIAS pin is used to improve efficiency when operating at higher input voltages and light load current. Connecting this pin to the regulated output voltage forces most of the internal circuitry to draw its operating (See Datasheet)", 11 ~{SHDN} (in), 13 FB/SENSE (in) "The feedback pin is used to set output voltage, using an external voltage divider that generates 2.42V at the pin with the desired output voltage. The fixed voltage (-5) parts have the divider included on the chip, and the (See Datasheet)", 14 VC "The VC pin is the output of the error amplifier and the input of the peak switch current comparator. It is normally used for frequency compensation, but can do double duty as a current clamp or control loop override. This (See Datasheet)"
part B pins: 1 GND (power) "The GND pin connection needs consideration for two reasons. First, it acts as the reference for the regulated output, so load regulation will suffer if the “ground” end of the load is not at the same voltage as the (See Datasheet)", 2 NC, 7 NC, 8 GND (power), 9 GND (power), 10 NC, 12 GND (power), 15 NC, 16 GND (power) "The GND pin connection needs consideration for two reasons. First, it acts as the reference for the regulated output, so load regulation will suffer if the “ground” end of the load is not at the same voltage as the (See Datasheet)"

## LT1376HVCS#TR
designator U?
1.5 A, 500 kHz Step-Down Switching Regulator, 16-pin SOP (S-16), 0 to 125 degC, Tape and Reel; Manufacturer: Linear Technology; PartNumber: LT1376HVCS#TR; Number of Outputs: 1; DatasheetVersion: Rev. D; PackageVersion: Rev. G, 05/2012; PackageReference: S-16; PackageDescription: 16-Pin Plastic Small Outline, Body 9.9 x 3.9 mm, Pitch 1.27 mm; Supplier 1: Digi-Key; Supplier Part Number 1: LT1376HVCS#TR-ND; Packing: Tape and Reel; RoHS: FALSE; Mounting Technology: Surface Mount; ComponentLink1Description: Manufacturer URL; ComponentLink1URL: http://www.linear.com/; ComponentLink2Description: Datasheet; ComponentLink2URL: http://cds.linear.com/docs/en/datasheet/13756fd.pdf; ComponentLink3Description: Package Specification; ComponentLink3URL: http://cds.linear.com/docs/en/packaging/S16%2005-08-1610%20Rev%20G.pdf
footprint LT-S-16_N (SOP, 16-Leads, Body 10x4mm, Pitch 1.27mm, IPC Medium Density)
footprint LT-S-16_L (SOP, 16-Leads, Body 10x4mm, Pitch 1.27mm, IPC High Density)
footprint LT-S-16_M (SOP, 16-Leads, Body 10x4mm, Pitch 1.27mm, IPC Low Density)
part A pins: 3 BOOST, 4 VIN (power) "This is the collector of the on-chip power NPN switch. This pin powers the internal circuitry and internal regulator when the BIAS pin is not present. At NPN switch on and off, high dl/dt edges occur on this pin. Keep the (See Datasheet)", 5 VSW (power), 6 BIAS (power) "The BIAS pin is used to improve efficiency when operating at higher input voltages and light load current. Connecting this pin to the regulated output voltage forces most of the internal circuitry to draw its operating (See Datasheet)", 11 ~{SHDN} (in), 13 FB/SENSE (in) "The feedback pin is used to set output voltage, using an external voltage divider that generates 2.42V at the pin with the desired output voltage. The fixed voltage (-5) parts have the divider included on the chip, and the (See Datasheet)", 14 VC "The VC pin is the output of the error amplifier and the input of the peak switch current comparator. It is normally used for frequency compensation, but can do double duty as a current clamp or control loop override. This (See Datasheet)"
part B pins: 1 GND (power) "The GND pin connection needs consideration for two reasons. First, it acts as the reference for the regulated output, so load regulation will suffer if the “ground” end of the load is not at the same voltage as the (See Datasheet)", 2 NC, 7 NC, 8 GND (power), 9 GND (power), 10 NC, 12 GND (power), 15 NC, 16 GND (power) "The GND pin connection needs consideration for two reasons. First, it acts as the reference for the regulated output, so load regulation will suffer if the “ground” end of the load is not at the same voltage as the (See Datasheet)"